# Altium footprint library WateringSystem_Library.PcbLib: 41 footprints (part 1 of 3)
Each footprint in its own frame and in the unit in brackets; x right, y up, seen from the top. Pads: shape width x height; smd on the part's side, far side on the other; paste and mask are expansions set on the pad; w line width, h text height; cw(c..) or ccw(c..) is an arc to the next point about the centre after c.
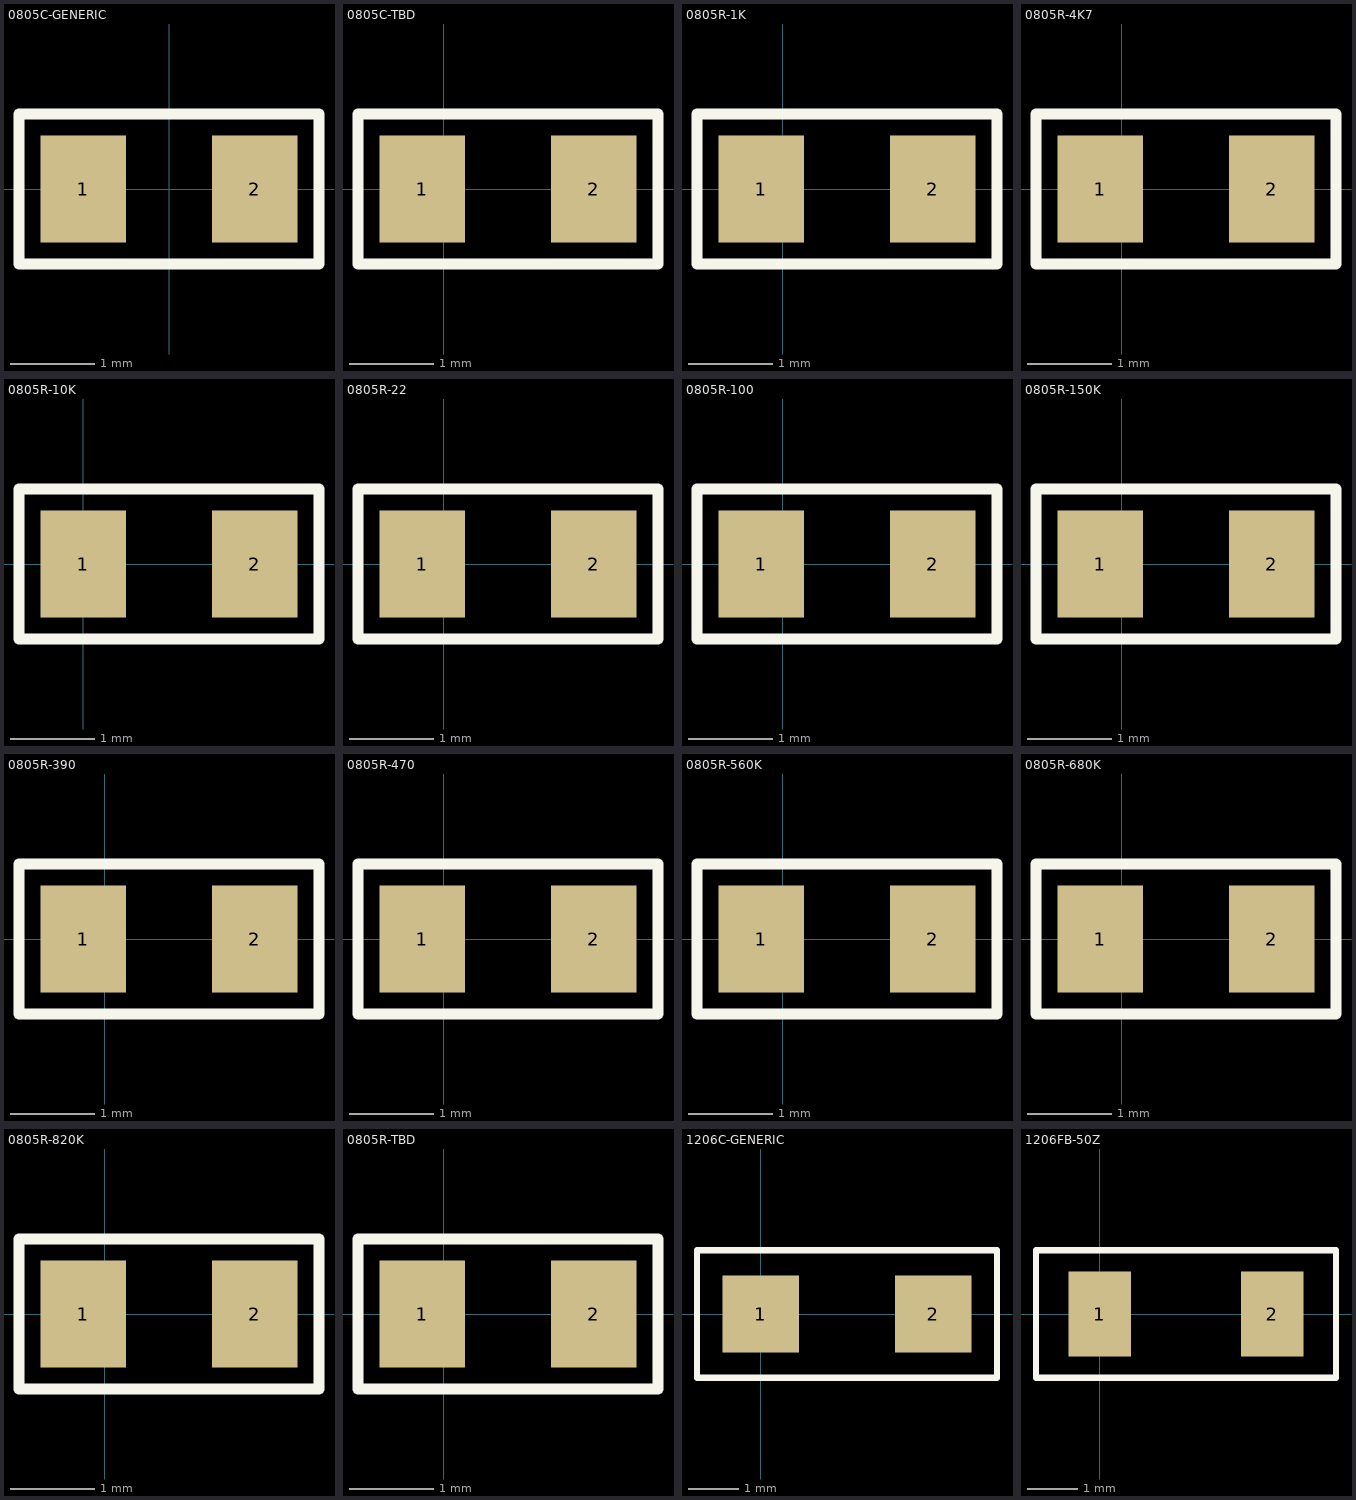
[diagram p0: the footprints below, top view; thin cyan lines are the x and y axes]

## 0805C-GENERIC [mil]
pads (2):
  rect 40x50 smd: 1(-40,0) 2(40,0)
Top Overlay:
  lines w5: -70,-35 70,-35 70,35 -70,35 -70,-35
3D body: height 23, standoff 22, extent 15,2.5 22.5,17.5
3D body: height 23, standoff 22, extent 5,2.5 12.5,17.5
3D body: height 23, standoff 22, extent -19.5,-15 -12,0
3D body: height 23, standoff 22, extent -35,2.5 -27.5,17.5
3D body: height 23, standoff 22, extent -25,2.5 -17.5,17.5
3D body: height 23, standoff 22, extent -15,2.5 -7.5,17.5
3D body: height 23, standoff 22, extent -5,2.5 2.5,17.5
3D body: height 23, standoff 22, extent -9.5,-15 -2,0
3D body: height 23, standoff 22, extent -29.5,-15 -22,0
3D body: height 23, standoff 22, extent 0.5,-15 8,0
3D body: height 23, standoff 22, extent 10.5,-15 18,0
3D body: height 25, standoff 0, extent -40,-24 39,24
3D body: height 26, standoff 0, extent -41,-25 -25,25
3D body: height 26, standoff 0, extent 24,-25 40,25

## 0805C-TBD [mil]
pads (2):
  rect 40x50 smd: 1(-10,0) 2(70,0)
Top Overlay:
  lines w5: -40,-35 -40,35 100,35 100,-35 -40,-35
3D body: height 26, standoff 0, extent 54,-25 70,25
3D body: height 26, standoff 0, extent -11,-25 5,25
3D body: height 25, standoff 0, extent -10,-24 69,24
3D body: height 26, standoff 25, extent 15.5,-4 23,9.5
3D body: height 26, standoff 25, extent 18,-8 20,-6
3D body: height 26, standoff 25, extent 28,-8 30,-6
3D body: height 26, standoff 25, extent 25.5,-4 33,9.5
3D body: height 26, standoff 25, extent 38,-8 40,-6
3D body: height 26, standoff 25, extent 35.5,-4 43,9.5

## 0805R-1K [mil]
pads (2):
  rect 40x50 smd: 1(-10,0) 2(70,0)
Top Overlay:
  lines w5: -40,-35 100,-35 100,35 -40,35 -40,-35
3D body: height 27, standoff 26, extent 15.5,-7.5 23,7.5
3D body: height 27, standoff 26, extent 25.5,-7.5 33,7.5
3D body: height 26, standoff 0, extent 54,-25 70,25
3D body: height 26, standoff 25, extent 5,-22 54,22
3D body: height 26, standoff 0, extent -11,-25 5,25
3D body: height 25, standoff 0, extent -10,-24 69,24
3D body: height 27, standoff 26, extent 35.5,-7.5 43,7.5

## 0805R-4K7 [mil]
pads (2):
  rect 40x50 smd: 1(-10,0) 2(70,0)
Top Overlay:
  lines w5: -40,-35 -40,35 100,35 100,-35 -40,-35
3D body: height 27, standoff 26, extent 35.5,-7.5 43,7.5
3D body: height 27, standoff 26, extent 15.5,-7.5 23,7.5
3D body: height 27, standoff 26, extent 25.5,-7.5 33,7.5
3D body: height 25, standoff 0, extent -10,-24 69,24
3D body: height 26, standoff 0, extent -11,-25 5,25
3D body: height 26, standoff 25, extent 5,-22 54,22
3D body: height 26, standoff 0, extent 54,-25 70,25

## 0805R-10K [mil]
pads (2):
  rect 40x50 smd: 1(0,0) 2(80,0)
Top Overlay:
  lines w5: -30,-35 110,-35 110,35 -30,35 -30,-35
3D body: height 27, standoff 26, extent 45.5,-7.5 53,7.5
3D body: height 27, standoff 26, extent 25.5,-7.5 33,7.5
3D body: height 27, standoff 26, extent 35.5,-7.5 43,7.5
3D body: height 26, standoff 0, extent 64,-25 80,25
3D body: height 26, standoff 25, extent 15,-22 64,22
3D body: height 26, standoff 0, extent -1,-25 15,25
3D body: height 25, standoff 0, extent 0,-24 79,24

## 0805R-22 [mil]
pads (2):
  rect 40x50 smd: 1(-10,0) 2(70,0)
Top Overlay:
  lines w5: -40,-35 -40,35 100,35 100,-35 -40,-35
3D body: height 25, standoff 0, extent -10,-24 69,24
3D body: height 26, standoff 0, extent -11,-25 5,25
3D body: height 26, standoff 25, extent 5,-22 54,22
3D body: height 26, standoff 0, extent 54,-25 70,25
3D body: height 27, standoff 26, extent 15.5,-7.5 23,7.5
3D body: height 27, standoff 26, extent 25.5,-7.5 33,7.5
3D body: height 27, standoff 26, extent 35.5,-7 43,8

## 0805R-100 [mil]
pads (2):
  rect 40x50 smd: 1(-10,0) 2(70,0)
Top Overlay:
  lines w5: -40,-35 100,-35 100,35 -40,35 -40,-35
3D body: height 27, standoff 26, extent 15.5,-7.5 23,7.5
3D body: height 27, standoff 26, extent 25.5,-7.5 33,7.5
3D body: height 26, standoff 0, extent 54,-25 70,25
3D body: height 26, standoff 25, extent 5,-22 54,22
3D body: height 26, standoff 0, extent -11,-25 5,25
3D body: height 25, standoff 0, extent -10,-24 69,24
3D body: height 27, standoff 26, extent 35.5,-7.5 43,7.5

## 0805R-150K [mil]
pads (2):
  rect 40x50 smd: 1(-10,0) 2(70,0)
Top Overlay:
  lines w5: -40,-35 -40,35 100,35 100,-35 -40,-35
3D body: height 27, standoff 26, extent 35,-7.5 42.5,7.5
3D body: height 25, standoff 0, extent -10,-24 69,24
3D body: height 26, standoff 0, extent -11,-25 5,25
3D body: height 26, standoff 25, extent 5,-22 54,22
3D body: height 26, standoff 0, extent 54,-25 70,25
3D body: height 27, standoff 26, extent 25,-7.5 32.5,7.5
3D body: height 27, standoff 26, extent 15.5,-7.5 23,7.5

## 0805R-390 [mil]
pads (2):
  rect 40x50 smd: 1(-10,0) 2(70,0)
Top Overlay:
  lines w5: -40,-35 -40,35 100,35 100,-35 -40,-35
3D body: height 27, standoff 26, extent 15.5,-7.5 23,7.5
3D body: height 27, standoff 26, extent 25.5,-7.5 33,7.5
3D body: height 27, standoff 26, extent 35.5,-7.5 43,7.5
3D body: height 25, standoff 0, extent -10,-24 69,24
3D body: height 26, standoff 0, extent -11,-25 5,25
3D body: height 26, standoff 25, extent 5,-22 54,22
3D body: height 26, standoff 0, extent 54,-25 70,25

## 0805R-470 [mil]
pads (2):
  rect 40x50 smd: 1(-10,0) 2(70,0)
Top Overlay:
  lines w5: -40,-35 -40,35 100,35 100,-35 -40,-35
3D body: height 27, standoff 26, extent 35.5,-7.5 43,7.5
3D body: height 27, standoff 26, extent 15.5,-7.5 23,7.5
3D body: height 27, standoff 26, extent 25.5,-7.5 33,7.5
3D body: height 25, standoff 0, extent -10,-24 69,24
3D body: height 26, standoff 0, extent -11,-25 5,25
3D body: height 26, standoff 25, extent 5,-22 54,22
3D body: height 26, standoff 0, extent 54,-25 70,25

## 0805R-560K [mil]
pads (2):
  rect 40x50 smd: 1(-10,0) 2(70,0)
Top Overlay:
  lines w5: -40,-35 100,-35 100,35 -40,35 -40,-35
3D body: height 26, standoff 0, extent 54,-25 70,25
3D body: height 26, standoff 25, extent 5,-22 54,22
3D body: height 26, standoff 0, extent -11,-25 5,25
3D body: height 25, standoff 0, extent -10,-24 69,24
3D body: height 27, standoff 26, extent 15.5,-7.5 23,7.5
3D body: height 27, standoff 26, extent 25.5,-7.5 33,7.5
3D body: height 27, standoff 26, extent 35.5,-7.5 43,7.5

## 0805R-680K [mil]
pads (2):
  rect 40x50 smd: 1(-10,0) 2(70,0)
Top Overlay:
  lines w5: -40,-35 -40,35 100,35 100,-35 -40,-35
3D body: height 27, standoff 26, extent 25.5,-7.5 33,7.5
3D body: height 27, standoff 26, extent 15.5,-7.5 23,7.5
3D body: height 25, standoff 0, extent -10,-24 69,24
3D body: height 26, standoff 0, extent -11,-25 5,25
3D body: height 26, standoff 25, extent 5,-22 54,22
3D body: height 26, standoff 0, extent 54,-25 70,25
3D body: height 27, standoff 26, extent 35.5,-7.5 43,7.5

## 0805R-820K [mil]
pads (2):
  rect 40x50 smd: 1(-10,0) 2(70,0)
Top Overlay:
  lines w5: -40,-35 -40,35 100,35 100,-35 -40,-35
3D body: height 27, standoff 26, extent 25.5,-7.5 33,7.5
3D body: height 27, standoff 26, extent 15.5,-7.5 23,7.5
3D body: height 25, standoff 0, extent -10,-24 69,24
3D body: height 26, standoff 0, extent -11,-25 5,25
3D body: height 26, standoff 25, extent 5,-22 54,22
3D body: height 26, standoff 0, extent 54,-25 70,25
3D body: height 27, standoff 26, extent 35.5,-7.5 43,7.5

## 0805R-TBD [mil]
pads (2):
  rect 40x50 smd: 1(-10,0) 2(70,0)
Top Overlay:
  lines w5: -40,-35 -40,35 100,35 100,-35 -40,-35
3D body: height 27, standoff 26, extent 33.5,-5 41,8.5
3D body: height 27, standoff 26, extent 36,-9 38,-7
3D body: height 27, standoff 26, extent 23.5,-5 31,8.5
3D body: height 27, standoff 26, extent 26,-9 28,-7
3D body: height 27, standoff 26, extent 16,-9 18,-7
3D body: height 25, standoff 0, extent -10,-24 69,24
3D body: height 26, standoff 0, extent -11,-25 5,25
3D body: height 26, standoff 25, extent 5,-22 54,22
3D body: height 26, standoff 0, extent 54,-25 70,25
3D body: height 27, standoff 26, extent 13.5,-5 21,8.5

## 1206C-GENERIC [mil]
pads (2):
  rect 60x60 smd: 1(0,0) 2(135,0)
Top Overlay:
  lines w5: -50,-50 -50,50 185,50 185,-50 -50,-50
3D body: height 46, standoff 0, extent -8,-29 22,29
3D body: height 45, standoff 0, extent 20,-28 118,28
3D body: height 23, standoff 22, extent 84.5,-16 92,-1
3D body: height 23, standoff 22, extent 74.5,-16 82,-1
3D body: height 23, standoff 22, extent 44.5,-16 52,-1
3D body: height 23, standoff 22, extent 64.5,-16 72,-1
3D body: height 23, standoff 22, extent 69,1.5 76.5,16.5
3D body: height 23, standoff 22, extent 59,1.5 66.5,16.5
3D body: height 23, standoff 22, extent 49,1.5 56.5,16.5
3D body: height 23, standoff 22, extent 39,1.5 46.5,16.5
3D body: height 23, standoff 22, extent 54.5,-16 62,-1
3D body: height 23, standoff 22, extent 79,1.5 86.5,16.5
3D body: height 23, standoff 22, extent 89,1.5 96.5,16.5
3D body: height 46, standoff 0, extent 117,-29 147,29

## 1206FB-50Z [mm]
pads (2):
  rect 1.25x1.7 smd: 1(0,0) 2(3.429,0)
Top Overlay:
  lines w0.127: -1.27,-1.27 4.699,-1.27 4.699,1.27 -1.27,1.27 -1.27,-1.27
3D body: height 0.84, standoff 0.81, extent 2.222,0 2.413,0.381
3D body: height 0.84, standoff 0.81, extent 1.968,0 2.159,0.381
3D body: height 0.81, standoff 0, extent 0.133,-0.8 3.296,0.787
3D body: height 0.84, standoff 0, extent 0.114,-0.813 0.521,0.8
3D body: height 0.84, standoff 0, extent 2.908,-0.813 3.315,0.8
3D body: height 0.84, standoff 0.81, extent 1.181,-0.445 1.372,-0.064
3D body: height 0.84, standoff 0.81, extent 0.953,0 1.143,0.381
3D body: height 0.84, standoff 0.81, extent 1.206,0 1.397,0.381
3D body: height 0.84, standoff 0.81, extent 1.46,0 1.651,0.381
3D body: height 0.84, standoff 0.81, extent 1.714,0 1.905,0.381
3D body: height 0.84, standoff 0.81, extent 1.435,-0.445 1.626,-0.064
3D body: height 0.84, standoff 0.81, extent 0.927,-0.445 1.118,-0.064
3D body: height 0.84, standoff 0.81, extent 1.689,-0.445 1.88,-0.064
3D body: height 0.84, standoff 0.81, extent 1.943,-0.445 2.134,-0.064
3D body: height 0.84, standoff 0.81, extent 2.235,-0.445 2.426,-0.064